# Altium schematic symbol library MAX680CSA_10V.SchLib: 1 symbol
Pins are listed as number, name and electrical type; pins without a type are passive.

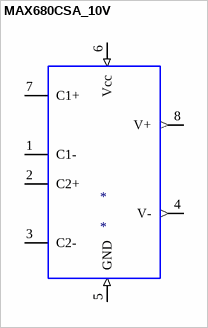
[diagram p0: symbol MAX680CSA_10V]

## MAX680CSA_10V
designator *
pins: 1 C1-, 2 C2+, 3 C2-, 4 V- (out), 5 GND (in), 6 Vcc (in), 7 C1+, 8 V+ (out)